# EAGLE library part MICROSD_DET (library DCEM-microSD)
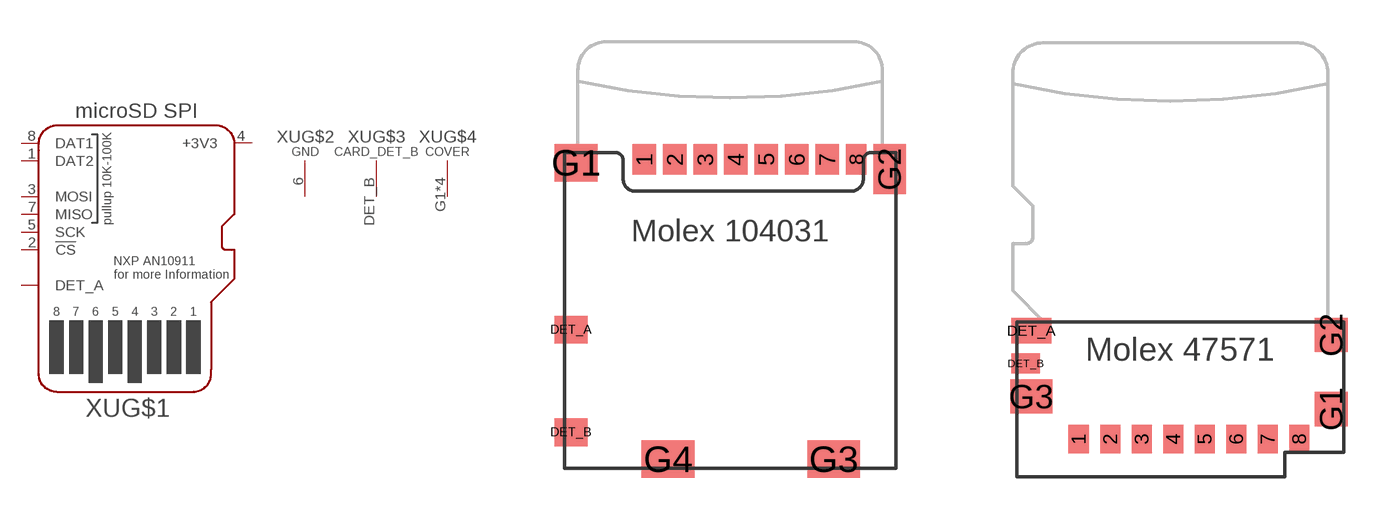
[diagram p0: symbol with the pads of MICROSD_MOLEX_104031; footprints MICROSD_MOLEX_104031, MICROSD_MOLEX_47571]

Designator prefix XU; gates G$2=PWR_GND G$3=DET_B G$4=COVER G$1=MICROSD_DET

## MICROSD_DETMOLEX104031  [MICROSD_MOLEX_104031]
1  G$1:DAT2
2  G$1:!CS  in
3  G$1:MOSI  in
4  G$1:+3V3  pwr
5  G$1:SCK  in
6  G$2:GND  pwr
7  G$1:MISO  out
8  G$1:DAT1
DET_A  G$1:DET_A  out
DET_B  G$3:GND  pwr
G1  G$4:GND  pwr
G2  G$4:GND  pwr
G3  G$4:GND  pwr
G4  G$4:GND  pwr

## MICROSD_DETMOLEX_47571  [MICROSD_MOLEX_47571]
1  G$1:DAT2
2  G$1:!CS  in
3  G$1:MOSI  in
4  G$1:+3V3  pwr
5  G$1:SCK  in
6  G$2:GND  pwr
7  G$1:MISO  out
8  G$1:DAT1
DET_A  G$1:DET_A  out
DET_B  G$3:GND  pwr
G1  G$4:GND  pwr
G2  G$4:GND  pwr
G3  G$4:GND  pwr

## MICROSD_DETMOLEX_47579  [MICROSD_MOLEX_47579]
1  G$1:DAT2
2  G$1:!CS  in
3  G$1:MOSI  in
4  G$1:+3V3  pwr
5  G$1:SCK  in
6  G$2:GND  pwr
7  G$1:MISO  out
8  G$1:DAT1
DET_A  G$1:DET_A  out
DET_B  G$3:GND  pwr
G1  G$4:GND  pwr
G2  G$4:GND  pwr

## MICROSD_DETMOLEX_502774  [MICROSD_MOLEX_502774]
Pads as for MICROSD_MOLEX_104031

## Footprint MICROSD_MOLEX_104031 (pad centres in mm)
smd 0.85 x 1.1: 1 -3.105,-0.85; 2 -2.005,-0.85; 3 -0.905,-0.85; 4 0.195,-0.85; 5 1.295,-0.85; 6 2.395,-0.85; 7 3.495,-0.85
smd 0.75 x 1.1: 8 4.545,-0.85
smd 1.2 x 1: DET_A -5.74,-7; DET_B -5.74,-10.7
smd 1.55 x 1.35: G1 -5.565,-0.975
smd 1.17 x 1.8: G2 5.755,-1.2
smd 1.9 x 1.35: G3 3.73,-11.675; G4 -2.24,-11.675

## Footprint MICROSD_MOLEX_47571 (pad centres in mm)
smd 0.7 x 1: 1 -3.55,-4.54; 2 -2.45,-4.54; 3 -1.35,-4.54; 4 -0.25,-4.54; 5 0.85,-4.54; 6 1.95,-4.54; 7 3.05,-4.54; 8 4.15,-4.54
smd 1.4 x 0.9: DET_A -5.2,-0.75
smd 1 x 0.7: DET_B -5.4,-1.9
smd 1.15 x 1.2: G1 5.275,-3.49; G2 5.275,-0.9
smd 1.45 x 1.2: G3 -5.2,-3.05

## Footprint MICROSD_MOLEX_47579 (pad centres in mm)
smd 0.5 x 1.6: 1 -3.55,-4.8; 2 -2.45,-4.8; 3 -1.35,-4.8; 4 -0.25,-4.8; 5 0.85,-4.8; 6 1.95,-4.8; 7 3.05,-4.8; 8 4.15,-4.8
smd 1.4 x 0.7: DET_A -5.15,-0.65
smd 1.1 x 0.5: DET_B -5.3,-1.8
smd 1.15 x 3.8: G1 5.275,-2.25
smd 1.45 x 1.4: G2 -5.125,-3.1
hole 0.9 at 3.6,-2.25
hole 0.9 at -3.7,-1.35

## Footprint MICROSD_MOLEX_502774 (pad centres in mm)
smd 0.8 x 1.68: 1 2.9,-16.7; 2 1.8,-16.7; 3 0.7,-16.7; 4 -0.4,-16.7; 5 -1.5,-16.7; 6 -2.6,-16.7; 7 -3.7,-16.7; 8 -4.8,-16.7
smd 1.29 x 1.4: DET_A -6.855,-7.74
smd 1.29 x 1.3: DET_B -6.855,-15.14
smd 1.5 x 1.7: G1 -6.75,-1.94; G2 6.75,-1.94
smd 1.7 x 1.5: G3 5.6,-16.79
smd 1.6 x 1.5: G4 -6.21,-16.79